# Altium schematic symbol library DS1307.SchLib: 1 symbol
Pins are listed as number, name and electrical type; pins without a type are passive.

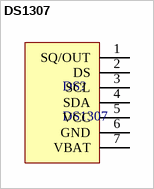
[diagram p0: symbol DS1307]

## DS1307
designator DS?
Tiny RTC I2C module DS1307
footprint DS1307
pins: 1 SQ/OUT, 2 DS, 3 SCL, 4 SDA, 5 VCC, 6 GND, 7 VBAT